# Altium schematic symbol library MOSFET P.Schlib: 1 symbol
Pins are listed as number, name and electrical type; pins without a type are passive.

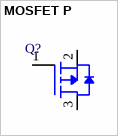
[diagram p0: symbol MOSFET P]

## MOSFET P
designator Q?  (value not drawn)
pins: 1 G, 2 S, 3 D